# Altium schematic symbol library Connector_Cosse.SchLib: 1 symbol
Pins are listed as number, name and electrical type; pins without a type are passive.

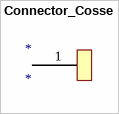
[diagram p0: symbol Connector_Cosse]

## Connector_Cosse
designator *
footprint Connector_Cosse
pins: 1